# EAGLE library part F31L-1A7H1-11040 (library F31L-1A7H1-11040)
40 Position FFC, FPC Connector Contacts, Bottom 0.020" (0.50mm) Surface Mount, Right Angle Source: Datasheet <https://cdn.amphenol-cs.com/media/wysiwyg/files/drawing/a-s0099-lf31l.pdf>
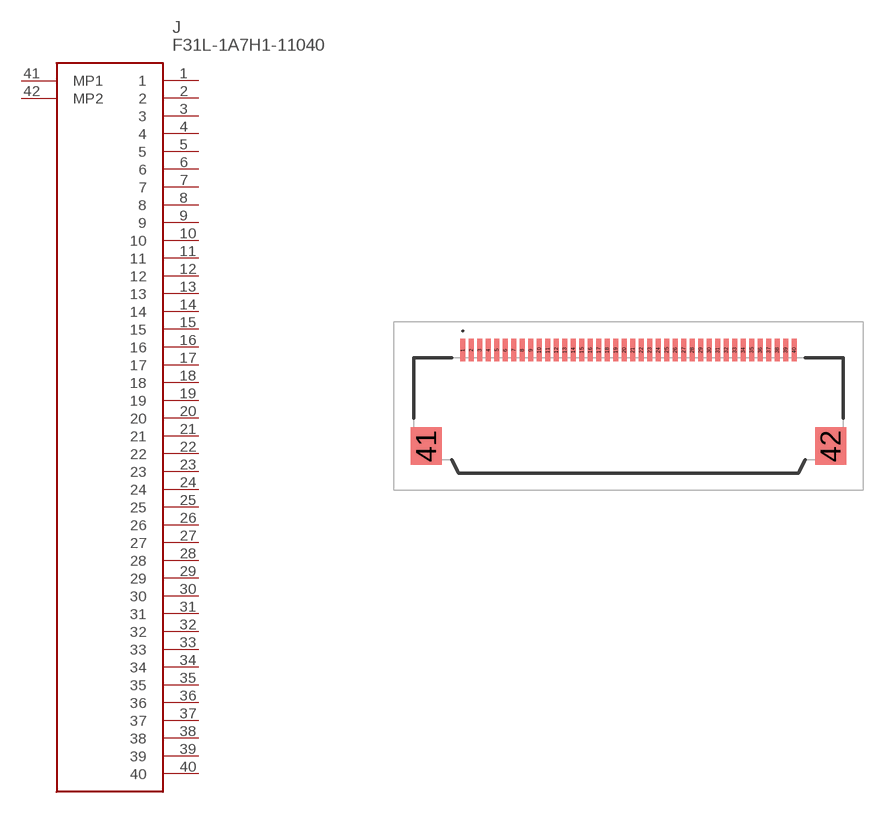
[diagram p0: symbol with the pads of F31L1A7H111040; footprint F31L1A7H111040]

Designator prefix J

## F31L-1A7H1-11040 (Description: 40 Position FFC, FPC Connector Contacts, Bottom 0.020" (0.50mm) Surface Mount, Right Angle; Height: 2.75mm; Manufacturer_Name: Amphenol; Manufacturer_Part_Number: F31L-1A7H1-11040)  [F31L1A7H111040]
1  1
2  2
3  3
4  4
5  5
6  6
7  7
8  8
9  9
10  10
11  11
12  12
13  13
14  14
15  15
16  16
17  17
18  18
19  19
20  20
21  21
22  22
23  23
24  24
25  25
26  26
27  27
28  28
29  29
30  30
31  31
32  32
33  33
34  34
35  35
36  36
37  37
38  38
39  39
40  40
41  MP1
42  MP2

## Footprint F31L1A7H111040 (pad centres in mm)
F31L-1A7H1-11040-2
smd 0.3 x 1.3: 1 -9.75,3.625; 2 -9.25,3.625; 3 -8.75,3.625; 4 -8.25,3.625; 5 -7.75,3.625; 6 -7.25,3.625; 7 -6.75,3.625; 8 -6.25,3.625; 9 -5.75,3.625; 10 -5.25,3.625; 11 -4.75,3.625; 12 -4.25,3.625; 13 -3.75,3.625; 14 -3.25,3.625; 15 -2.75,3.625; 16 -2.25,3.625; 17 -1.75,3.625; 18 -1.25,3.625; 19 -0.75,3.625; 20 -0.25,3.625; 21 0.25,3.625; 22 0.75,3.625; 23 1.25,3.625; 24 1.75,3.625; 25 2.25,3.625; 26 2.75,3.625; 27 3.25,3.625; 28 3.75,3.625; 29 4.25,3.625; 30 4.75,3.625; 31 5.25,3.625; 32 5.75,3.625; 33 6.25,3.625; 34 6.75,3.625; 35 7.25,3.625; 36 7.75,3.625; 37 8.25,3.625; 38 8.75,3.625; 39 9.25,3.625; 40 9.75,3.625
smd 1.8 x 2.2: 41 -11.9,-2.025; 42 11.9,-2.025